# Altium schematic symbol library Audio.SchLib: 25 symbols
Pins are listed as number, name and electrical type; pins without a type are passive.

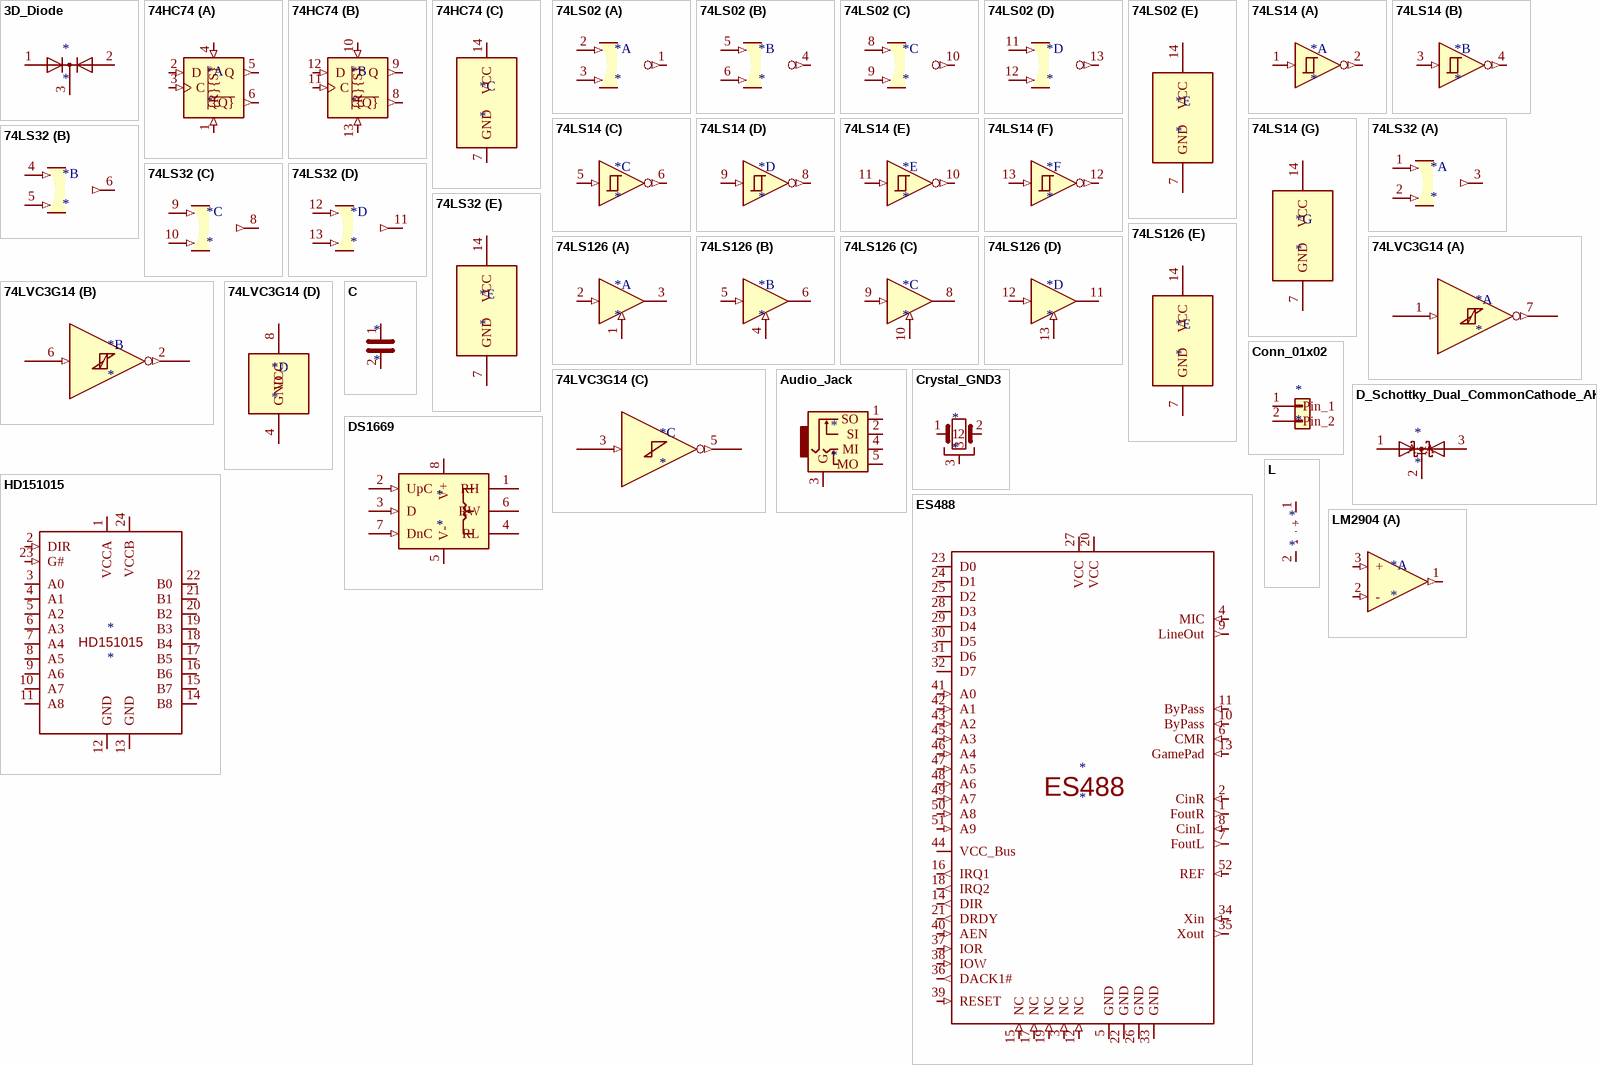
[diagram p0: symbols 3D_Diode to LM2904]

## 3D_Diode
designator *
pins: 1, 2, 3

## 74HC74
designator *
part A pins: 1 ~{{R}} (in), 2 D (in), 3 C (in), 4 ~{{S}} (in), 5 Q (out), 6 ~{{Q}} (out)
part B pins: 8 ~{{Q}} (out), 9 Q (out), 10 ~{{S}} (in), 11 C (in), 12 D (in), 13 ~{{R}} (in)
part C pins: 7 GND (power), 14 VCC (power)

## 74LS02
designator *
part A pins: 1 (out), 2 (in), 3 (in)
part B pins: 4 (out), 5 (in), 6 (in)
part C pins: 8 (in), 9 (in), 10 (out)
part D pins: 11 (in), 12 (in), 13 (out)
part E pins: 7 GND (power), 14 VCC (power)
1 alternate drawing of the same symbol

## 74LS14
designator *
part A pins: 1 (in), 2 (out)
part B pins: 3 (in), 4 (out)
part C pins: 5 (in), 6 (out)
part D pins: 8 (out), 9 (in)
part E pins: 10 (out), 11 (in)
part F pins: 12 (out), 13 (in)
part G pins: 7 GND (power), 14 VCC (power)

## 74LS32
designator *
part A pins: 1 (in), 2 (in), 3 (out)
part B pins: 4 (in), 5 (in), 6 (out)
part C pins: 8 (out), 9 (in), 10 (in)
part D pins: 11 (out), 12 (in), 13 (in)
part E pins: 7 GND (power), 14 VCC (power)
1 alternate drawing of the same symbol

## 74LS126
designator *
part A pins: 1 (in), 2 (in), 3 (hiz)
part B pins: 4 (in), 5 (in), 6 (hiz)
part C pins: 8 (hiz), 9 (in), 10 (in)
part D pins: 11 (hiz), 12 (in), 13 (in)
part E pins: 7 GND (power), 14 VCC (power)

## 74LVC3G14
designator *
part A pins: 1 (in), 7 (out)
part B pins: 2 (out), 6 (in)
part C pins: 3 (in), 5 (out)
part D pins: 4 GND (power), 8 VCC (power)

## Audio_Jack
designator *
pins: 1 SO, 2 SI, 3 G, 4 MI, 5 MO

## C
designator *
pins: 1, 2

## Conn_01x02
designator *
pins: 1 Pin_1, 2 Pin_2

## Crystal_GND3
designator *
pins: 1, 2, 3

## D_Schottky_Dual_CommonCathode_AKA
designator *
pins: 1 A, 2 K, 3 A

## DS1669
designator *
pins: 1 RH, 2 UpC (in), 3 D (in), 4 RL, 5 V- (power), 6 RW, 7 DnC (in), 8 V+ (power)

## ES488
designator *
pins: 1 FoutR (out), 2 CinR (in), 3 NC (in), 4 MIC (in), 5 GND (power), 6 CMR (in), 7 FoutL (out), 8 CinL (in), 9 LineOut (out), 10 ByPass (in), 11 ByPass (in), 12 NC (in), 13 GamePad (in), 14 DIR (out), 15 NC (in), 16 IRQ1 (out), 17 NC (in), 18 IRQ2 (out), 19 NC (in), 20 VCC (power), 21 DRDY (out), 22 GND (power), 23 D0 (io), 24 D1 (io), 25 D2 (io), 26 GND (power), 27 VCC (power), 28 D3 (io), 29 D4 (io), 30 D5 (io), 31 D6 (io), 32 D7 (io), 33 GND (power), 34 Xin (in), 35 Xout (out), 36 DACK1# (out), 37 IOR (in), 38 IOW (in), 39 RESET (in), 40 AEN (in), 41 A0 (in), 42 A1 (in), 43 A2 (in), 44 VCC_Bus (power), 45 A3 (in), 46 A4 (in), 47 A5 (in), 48 A6 (in), 49 A7 (in), 50 A8 (in), 51 A9 (in), 52 REF (in)

## HD151015
designator *
pins: 1 VCCA (power), 2 DIR (in), 3 A0 (io), 4 A1 (io), 5 A2 (io), 6 A3 (io), 7 A4 (io), 8 A5 (io), 9 A6 (io), 10 A7 (io), 11 A8 (io), 12 GND (power), 13 GND (power), 14 B8 (io), 15 B7 (io), 16 B6 (io), 17 B5 (io), 18 B4 (io), 19 B3 (io), 20 B2 (io), 21 B1 (io), 22 B0 (io), 23 G# (in), 24 VCCB (power)

## L
designator *
pins: 1 +, 2 -
2 alternate drawings of the same symbol

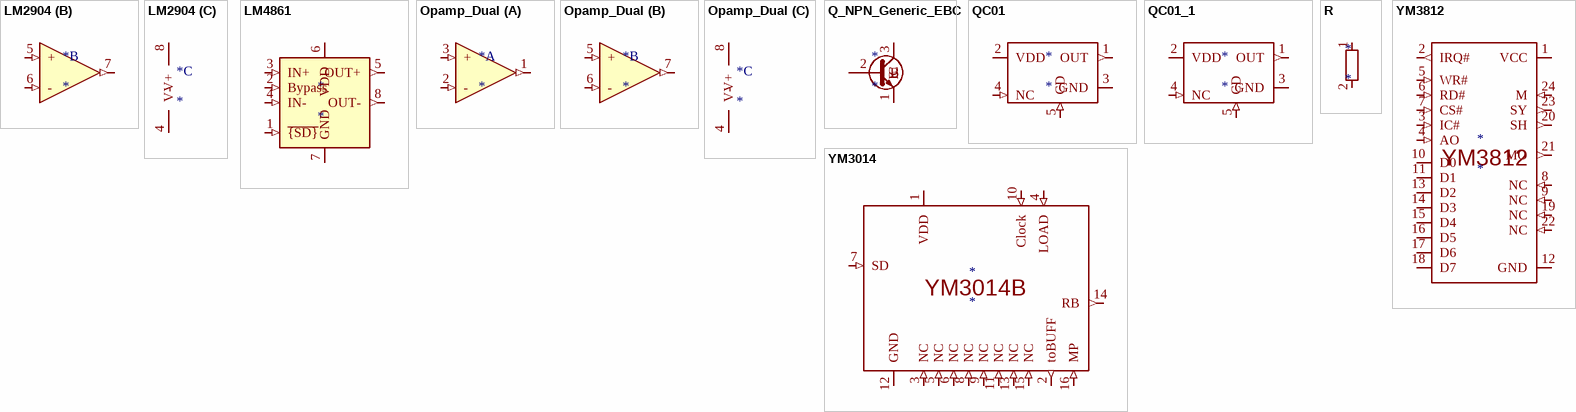
[diagram p1: symbols LM2904 to YM3812]

## LM2904
designator *
part A pins: 1 (out), 2 - (in), 3 + (in)
part B pins: 5 + (in), 6 - (in), 7 (out)
part C pins: 4 V- (power), 8 V+ (power)

## LM4861
designator *
pins: 1 ~{{SD}} (in), 2 Bypass (in), 3 IN+ (in), 4 IN- (in), 5 OUT+ (out), 6 VDD (power), 7 GND (power), 8 OUT- (out)

## Opamp_Dual
designator *
part A pins: 1 (out), 2 - (in), 3 + (in)
part B pins: 5 + (in), 6 - (in), 7 (out)
part C pins: 4 V- (power), 8 V+ (power)

## Q_NPN_Generic_EBC
designator *
pins: 1 E, 2 B, 3 C

## QC01
designator *
pins: 1 OUT (out), 2 VDD (power), 3 GND (power), 4 NC (in), 5 CD (in)

## QC01_1
designator *
pins: 1 OUT (out), 2 VDD (power), 3 GND (power), 4 NC (in), 5 CD (in)

## R
designator *
pins: 1, 2

## YM3014
designator *
pins: 1 VDD (power), 2 toBUFF (out), 3 NC (in), 4 LOAD (in), 5 NC (in), 6 NC (in), 7 SD (in), 8 NC (in), 9 NC (in), 10 Clock (in), 11 NC (in), 12 GND (power), 13 NC (in), 14 RB (out), 15 NC (in), 16 MP (in)
text: YM3014B

## YM3812
designator *
pins: 1 VCC (power), 2 IRQ# (out), 3 IC# (in), 4 AO (in), 5 WR# (in), 6 RD# (in), 7 CS# (in), 8 NC (in), 9 NC (in), 10 D0 (io), 11 D1 (io), 12 GND (power), 13 D2 (io), 14 D3 (io), 15 D4 (io), 16 D5 (io), 17 D6 (io), 18 D7 (io), 19 NC (in), 20 SH (out), 21 MO (out), 22 NC (in), 23 SY (out), 24 M (in)